# Altium footprint library ssr_acdc5A.PcbLib: 2 footprints
Each footprint in its own frame and in the unit in brackets; x right, y up, seen from the top. Pads: shape width x height; smd on the part's side, far side on the other; paste and mask are expansions set on the pad; w line width, h text height; cw(c..) or ccw(c..) is an arc to the next point about the centre after c.
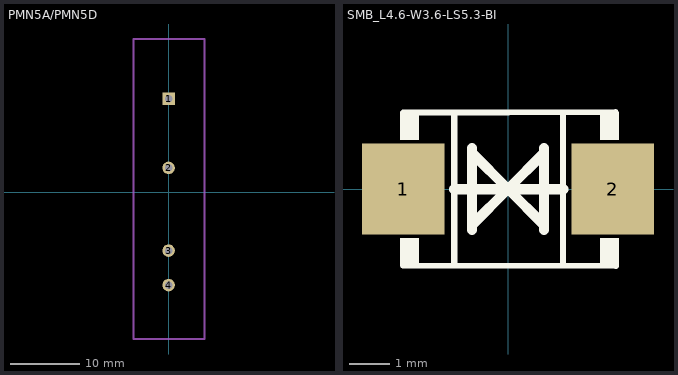
[diagram p0: the footprints below, top view; thin cyan lines are the x and y axes]

## PMN5A/PMN5D [mm]
pads (4):
  rect 1.8x1.8 hole 1.1: 1(0,13.5)
  round 1.8 hole 1.1: 2(0,3.5) 3(0,-8.5) 4(0,-13.5)
Mechanical 15:
  lines w0.254: -5.093,-21.313 5.207,-21.313 5.207,22.187 -5.093,22.187 -5.093,-21.313
3D body: height 25.5, standoff 0, extent -5.22,-21.44 5.334,22.314

## SMB_L4.6-W3.6-LS5.3-BI [mm]
pads (2):
  rect 2.047x2.241 smd: 1(-2.591,0) 2(2.591,0)
Top Overlay:
  region: -2.667,-1.905 -2.667,-1.215 -2.21,-1.215 -2.21,-1.905
  region: -2.667,1.905 -2.667,1.215 -2.21,1.215 -2.21,1.905
  region: 2.286,1.905 2.286,1.215 2.743,1.215 2.743,1.905
  region: 2.286,-1.905 2.286,-1.215 2.743,-1.215 2.743,-1.905
  lines w0.152: -2.599,-1.89 2.667,-1.905 ; -2.591,1.887 2.663,1.905 ; -1.331,-1.886 -1.331,1.886 ; 1.364,-1.886 1.364,1.886
  lines w0.254: -1.331,-0.008 1.364,-0.008 ; 0,0 -0.889,0.889 -0.889,1.016 -0.889,-1.016 -0.889,-0.889 0,0 ; 0,0 0.889,-0.889 0.889,-1.016 0.889,1.016 0.889,0.889 0,0